# Altium schematic symbol library kmilo17pet-LT_PMIC_LT.SchLib: 2252 symbols (part 123 of 124)
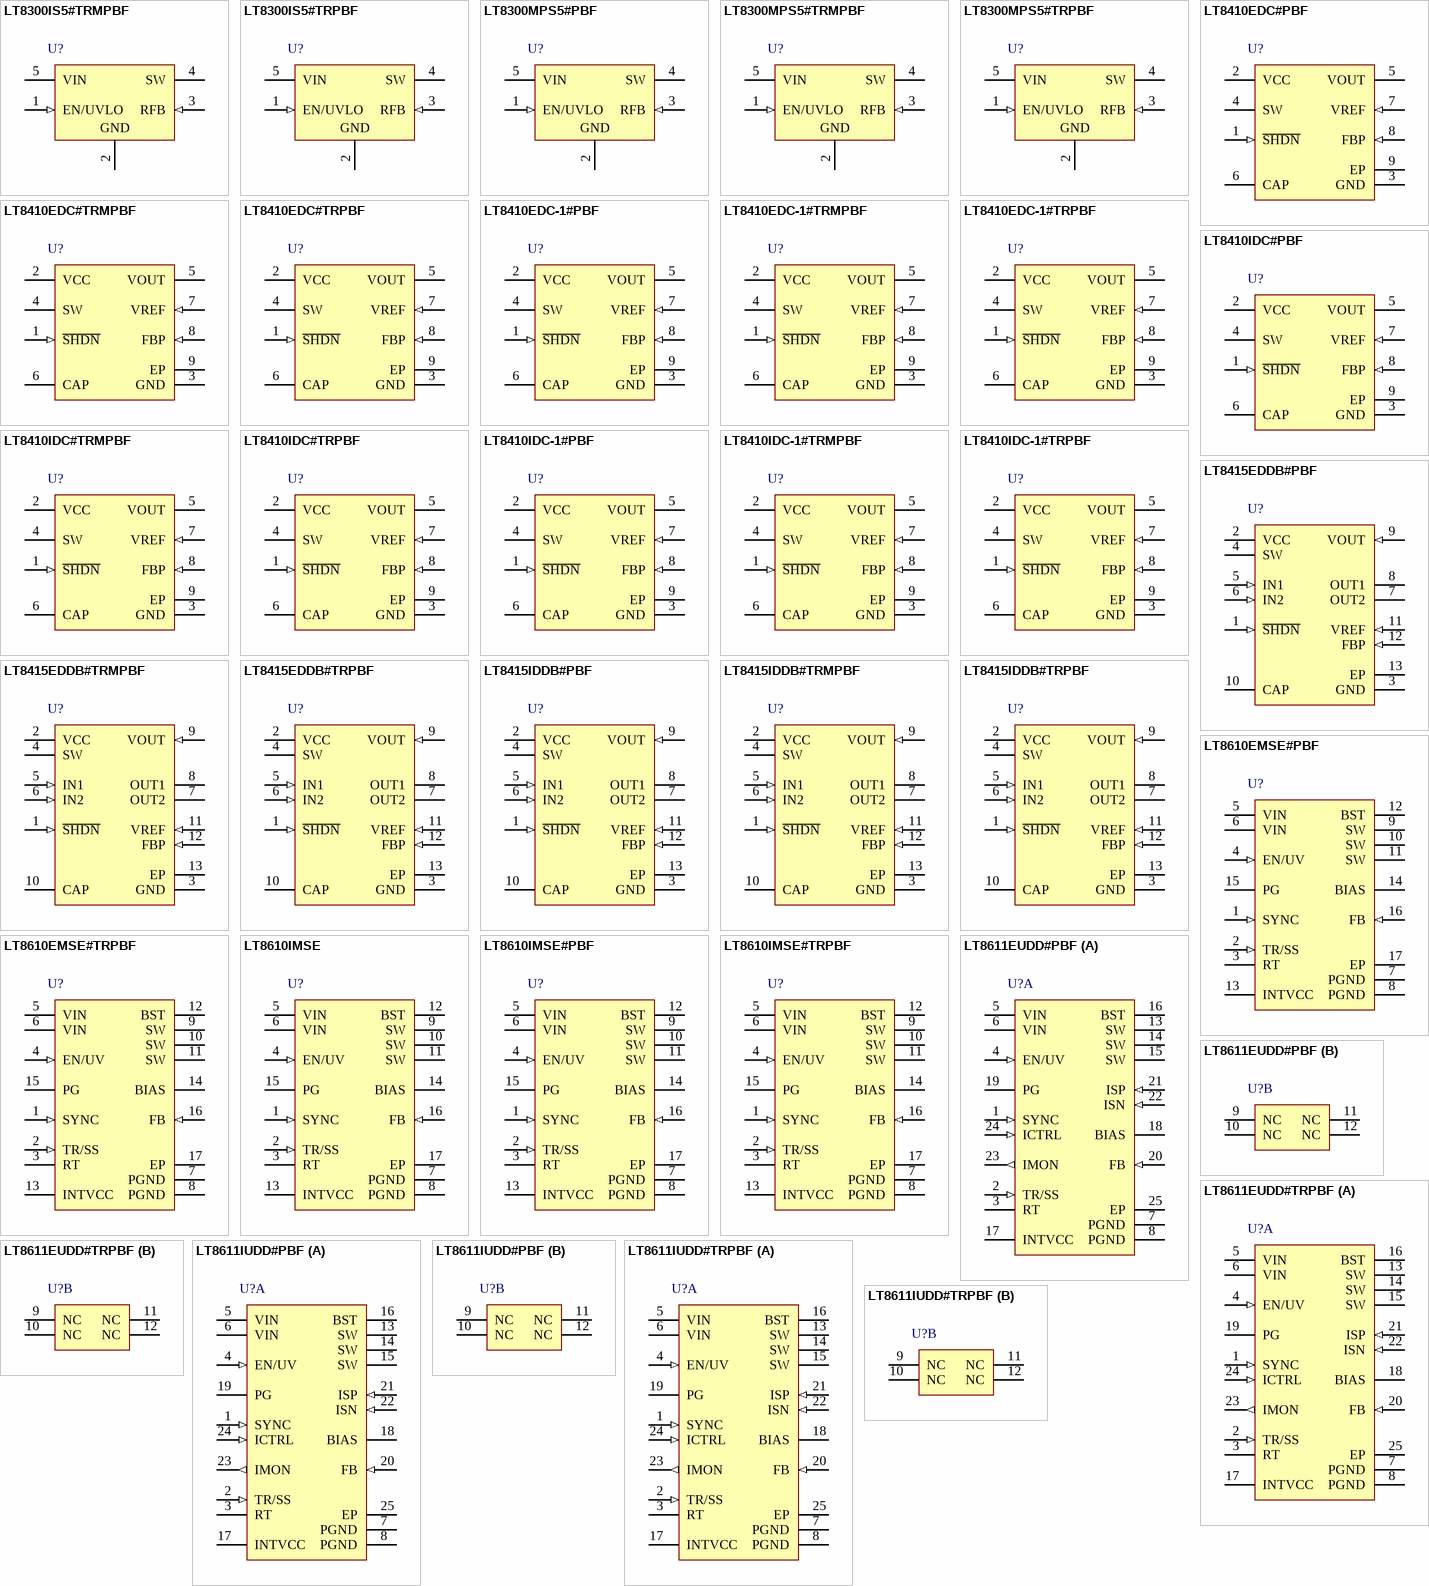
[diagram p193: symbols LT8300IS5#TRMPBF to LT8611IUDD#TRPBF]

## LT8610IMSE#TRPBF
designator U?
2.5 A Synchronous Step-Down Regulator 2.5 uA Quiescent Current, 16-pin SOP (MSE-16-EDP), -40 to 125 degC, Pb-Free, Tape and Reel; Manufacturer: Linear Technology; PartNumber: LT8610IMSE#TRPBF; Number of Outputs: 1; PackageReference: MSE-16; PackageDescription: 16-Pin Plastic MSOP, Exposed Die Pad, Body 4.039 x 3 mm, Pitch 0.5 mm; Supplier 1: Digi-Key; Supplier Part Number 1: LT8610IMSE#TRPBF-ND; RoHS: TRUE
footprint LT-MSE-16-EDP_N (SOP, 16-Leads, Body 4.1x3.1mm, Pitch 0.5mm, Thermal Pad 2.95x1.76mm, IPC Medium Density)
footprint LT-MSE-16-EDP_L (SOP, 16-Leads, Body 4.1x3.1mm, Pitch 0.5mm, Thermal Pad 2.95x1.76mm, IPC High Density)
footprint LT-MSE-16-EDP_M (SOP, 16-Leads, Body 4.1x3.1mm, Pitch 0.5mm, Thermal Pad 2.95x1.76mm, IPC Low Density)
pins: 1 SYNC (in) "External Clock Synchronization Input. Ground this pin for low ripple Burst Mode operation at low output loads. Tie to a clock source for synchronization to an external frequency. Apply a DC voltage of 3V or higher or tie to (See Datasheet)", 2 TR/SS (in) "Output Tracking and Soft-Start Pin. This pin allows user control of output voltage ramp rate during start-up. A TR/SS voltage below 0.97V forces the LT8610 to regulate the FB pin to equal the TR/SS pin voltage. When TR/SS is (See Datasheet)", 3 RT "A resistor is tied between RT and ground to set the switching frequency.", 4 EN/UV (in) "The LT8610 is shut down when this pin is low and active when this pin is high. The hysteretic threshold voltage is 1.00V going up and 0.96V going down. Tie to VIN if the shutdown feature is not used. An external resistor (See Datasheet)", 5 VIN (power) "The VIN pins supply current to the LT8610 internal circuitry and to the internal topside power switch. These pins must be tied together and be locally bypassed. Be sure to place the positive terminal of the input capacitor (See Datasheet)", 6 VIN (power) "The VIN pins supply current to the LT8610 internal circuitry and to the internal topside power switch. These pins must be tied together and be locally bypassed. Be sure to place the positive terminal of the input capacitor (See Datasheet)", 7 PGND (power) "Power Switch Ground. These pins are the return path of the internal bottom-side power switch and must be tied together. Place the negative terminal of the input capacitor as close to the PGND pins as possible.", 8 PGND (power) "Power Switch Ground. These pins are the return path of the internal bottom-side power switch and must be tied together. Place the negative terminal of the input capacitor as close to the PGND pins as possible.", 9 SW (power) "The SW pins are the outputs of the internal power switches. Tie these pins together and connect them to the inductor and boost capacitor. This node should be kept small on the PCB for good performance.", 10 SW (power) "The SW pins are the outputs of the internal power switches. Tie these pins together and connect them to the inductor and boost capacitor. This node should be kept small on the PCB for good performance.", 11 SW (power) "The SW pins are the outputs of the internal power switches. Tie these pins together and connect them to the inductor and boost capacitor. This node should be kept small on the PCB for good performance.", 12 BST "This pin is used to provide a drive voltage, higher than the input voltage, to the topside power switch. Place a 0.1uF boost capacitor as close as possible to the IC.", 13 INTVCC (power) "Internal 3.4V Regulator Bypass Pin. The internal power drivers and control circuits are powered from this voltage. INTVCC maximum output current is 20mA. Do not load the INTVCC pin with external circuitry. INTVCC current (See Datasheet)", 14 BIAS (power) "The internal regulator will draw current from BIAS instead of VIN when BIAS is tied to a voltage higher than 3.1V. For output voltages of 3.3V and above this pin should be tied to VOUT. If this pin is tied to a supply other (See Datasheet)", 15 PG (hiz) "The PG pin is the open-drain output of an internal comparator. PG remains low until the FB pin is within +/-9% of the final regulation voltage, and there are no fault conditions. PG is valid when VIN is above 3.4V, (See Datasheet)", 16 FB (in) "The LT8610 regulates the FB pin to 0.970V. Connect the feedback resistor divider tap to this pin. Also, connect a phase lead capacitor between FB and VOUT. Typically, this capacitor is 4.7pF to 10pF.", 17 EP (power) "Ground. The exposed pad must be connected to the negative terminal of the input capacitor and soldered to the PCB in order to lower the thermal resistance."

## LT8611EUDD#PBF
designator U?
2.5 A Synchronous Step-Down Regulator with Current Sense and 2.5 uA Quiescent Current, 24-pin QFN (UDD-24), -40 to 125 degC, Pb-Free; Manufacturer: Linear Technology; PartNumber: LT8611EUDD#PBF; Number of Outputs: 1; PackageReference: UDD-24; PackageDescription: 24-Pin Plastic QFN, Body 5 x 3 mm, Pitch 0.5 mm; Supplier 1: Digi-Key; Supplier Part Number 1: LT8611EUDD#PBF-ND; RoHS: TRUE
footprint LT-UDD-24_N (QFN, 24-Leads, Body 5.1x3.1mm, Pitch 0.5mm, Thermal Pad 3.65x1.65mm, IPC Medium Density)
footprint LT-UDD-24_L (QFN, 24-Leads, Body 5.1x3.1mm, Pitch 0.5mm, Thermal Pad 3.65x1.65mm, IPC High Density)
footprint LT-UDD-24_M (QFN, 24-Leads, Body 5.1x3.1mm, Pitch 0.5mm, Thermal Pad 3.65x1.65mm, IPC Low Density)
part A pins: 1 SYNC (in) "External Clock Synchronization Input. Ground this pin for low ripple Burst Mode operation at low output loads. Tie to a clock source for synchronization to an external frequency. Apply a DC voltage of 3V or higher or tie to (See Datasheet)", 2 TR/SS (in) "Output Tracking and Soft-Start Pin. This pin allows user control of output voltage ramp rate during start-up. A TR/SS voltage below 0.97V forces the LT8611 to regulate the FB pin to equal the TR/SS pin voltage. When TR/SS is (See Datasheet)", 3 RT "A resistor is tied between RT and ground to set the switching frequency.", 4 EN/UV (in) "The LT8611 is shut down when this pin is low and active when this pin is high. The hysteretic threshold voltage is 1.00V going up and 0.96V going down. Tie to VIN if the shutdown feature is not used. An external resistor (See Datasheet)", 5 VIN (power) "The VIN pins supply current to the LT8611 internal circuitry and to the internal topside power switch. These pins must be tied together and be locally bypassed. Be sure to place the positive terminal of the input capacitor (See Datasheet)", 6 VIN (power) "The VIN pins supply current to the LT8611 internal circuitry and to the internal topside power switch. These pins must be tied together and be locally bypassed. Be sure to place the positive terminal of the input capacitor (See Datasheet)", 7 PGND (power) "Power Switch Ground. These pins are the return path of the internal bottom-side power switch and must be tied together. Place the negative terminal of the input capacitor as close to the PGND pins as possible.", 8 PGND (power) "Power Switch Ground. These pins are the return path of the internal bottom-side power switch and must be tied together. Place the negative terminal of the input capacitor as close to the PGND pins as possible.", 13 SW (power) "The SW pins are the outputs of the internal power switches. Tie these pins together and connect them to the inductor and boost capacitor. This node should be kept small on the PCB for good performance.", 14 SW (power) "The SW pins are the outputs of the internal power switches. Tie these pins together and connect them to the inductor and boost capacitor. This node should be kept small on the PCB for good performance.", 15 SW (power) "The SW pins are the outputs of the internal power switches. Tie these pins together and connect them to the inductor and boost capacitor. This node should be kept small on the PCB for good performance.", 16 BST "This pin is used to provide a drive voltage, higher than the input voltage, to the topside power switch. Place a 0.1uF boost capacitor as close as possible to the IC.", 17 INTVCC (power) "Internal 3.4V Regulator Bypass Pin. The internal power drivers and control circuits are powered from this voltage. INTVCC maximum output current is 20mA. Do not load the INTVCC pin with external circuitry. INTVCC current (See Datasheet)", 18 BIAS (power) "The internal regulator will draw current from BIAS instead of VIN when BIAS is tied to a voltage higher than 3.1V. For output voltages of 3.3V and above this pin should be tied to VOUT. If this pin is tied to a supply other (See Datasheet)", 19 PG (hiz) "The PG pin is the open-drain output of an internal comparator. PG remains low until the FB pin is within +/-9% of the final regulation voltage, and there are no fault conditions. PG is valid when VIN is above 3.4V, (See Datasheet)", 20 FB (in) "The LT8611 regulates the FB pin to 0.970V. Connect the feedback resistor divider tap to this pin. Also, connect a phase lead capacitor between FB and VOUT. Typically, this capacitor is 4.7pF to 10pF.", 21 ISP (in) "Current Sense (+) Pin. This is the noninverting input to the current sense amplifier.", 22 ISN (in) "Current Sense (-) Pin. This is the inverting input to the current sense amplifier.", 23 IMON (out) "Proportional-to-Current Monitor Output. This pin sources a voltage 20 times the voltage between the ISP and ISN pins such that: VIMON = 20 ?(VISP-VISN). IMON can source 200uA and sink 10uA. Float IMON if unused.", 24 ICTRL (in) "Current Adjustment Pin. ICTRL adjusts the maximum ISP-ISN drop before the LT8611 reduces output current. Connect directly to INTVCC or float for full-scale ISP-ISN threshold of 50mV or apply values between GND and 1V to (See Datasheet)", 25 EP (power) "Ground. The exposed pad must be connected to the negative terminal of the input capacitor and soldered to the PCB in order to lower the thermal resistance."
part B pins: 9 NC "No Connect. These pins are not connected to internal circuitry. It is recommended that these be connected to GND so that the exposed pad GND can be run to the top level GND copper to enhance thermal performance.", 10 NC "No Connect. These pins are not connected to internal circuitry. It is recommended that these be connected to GND so that the exposed pad GND can be run to the top level GND copper to enhance thermal performance.", 11 NC "No Connect. These pins are not connected to internal circuitry. It is recommended that these be connected to GND so that the exposed pad GND can be run to the top level GND copper to enhance thermal performance.", 12 NC "No Connect. These pins are not connected to internal circuitry. It is recommended that these be connected to GND so that the exposed pad GND can be run to the top level GND copper to enhance thermal performance."

## LT8611EUDD#TRPBF
designator U?
2.5 A Synchronous Step-Down Regulator with Current Sense and 2.5 uA Quiescent Current, 24-pin QFN (UDD-24), -40 to 125 degC, Pb-Free, Tape and Reel; Manufacturer: Linear Technology; PartNumber: LT8611EUDD#TRPBF; Number of Outputs: 1; PackageReference: UDD-24; PackageDescription: 24-Pin Plastic QFN, Body 5 x 3 mm, Pitch 0.5 mm; Supplier 1: Digi-Key; Supplier Part Number 1: LT8611EUDD#TRPBF-ND; RoHS: TRUE
footprint LT-UDD-24_N (QFN, 24-Leads, Body 5.1x3.1mm, Pitch 0.5mm, Thermal Pad 3.65x1.65mm, IPC Medium Density)
footprint LT-UDD-24_L (QFN, 24-Leads, Body 5.1x3.1mm, Pitch 0.5mm, Thermal Pad 3.65x1.65mm, IPC High Density)
footprint LT-UDD-24_M (QFN, 24-Leads, Body 5.1x3.1mm, Pitch 0.5mm, Thermal Pad 3.65x1.65mm, IPC Low Density)
part A pins: 1 SYNC (in) "External Clock Synchronization Input. Ground this pin for low ripple Burst Mode operation at low output loads. Tie to a clock source for synchronization to an external frequency. Apply a DC voltage of 3V or higher or tie to (See Datasheet)", 2 TR/SS (in) "Output Tracking and Soft-Start Pin. This pin allows user control of output voltage ramp rate during start-up. A TR/SS voltage below 0.97V forces the LT8611 to regulate the FB pin to equal the TR/SS pin voltage. When TR/SS is (See Datasheet)", 3 RT "A resistor is tied between RT and ground to set the switching frequency.", 4 EN/UV (in) "The LT8611 is shut down when this pin is low and active when this pin is high. The hysteretic threshold voltage is 1.00V going up and 0.96V going down. Tie to VIN if the shutdown feature is not used. An external resistor (See Datasheet)", 5 VIN (power) "The VIN pins supply current to the LT8611 internal circuitry and to the internal topside power switch. These pins must be tied together and be locally bypassed. Be sure to place the positive terminal of the input capacitor (See Datasheet)", 6 VIN (power) "The VIN pins supply current to the LT8611 internal circuitry and to the internal topside power switch. These pins must be tied together and be locally bypassed. Be sure to place the positive terminal of the input capacitor (See Datasheet)", 7 PGND (power) "Power Switch Ground. These pins are the return path of the internal bottom-side power switch and must be tied together. Place the negative terminal of the input capacitor as close to the PGND pins as possible.", 8 PGND (power) "Power Switch Ground. These pins are the return path of the internal bottom-side power switch and must be tied together. Place the negative terminal of the input capacitor as close to the PGND pins as possible.", 13 SW (power) "The SW pins are the outputs of the internal power switches. Tie these pins together and connect them to the inductor and boost capacitor. This node should be kept small on the PCB for good performance.", 14 SW (power) "The SW pins are the outputs of the internal power switches. Tie these pins together and connect them to the inductor and boost capacitor. This node should be kept small on the PCB for good performance.", 15 SW (power) "The SW pins are the outputs of the internal power switches. Tie these pins together and connect them to the inductor and boost capacitor. This node should be kept small on the PCB for good performance.", 16 BST "This pin is used to provide a drive voltage, higher than the input voltage, to the topside power switch. Place a 0.1uF boost capacitor as close as possible to the IC.", 17 INTVCC (power) "Internal 3.4V Regulator Bypass Pin. The internal power drivers and control circuits are powered from this voltage. INTVCC maximum output current is 20mA. Do not load the INTVCC pin with external circuitry. INTVCC current (See Datasheet)", 18 BIAS (power) "The internal regulator will draw current from BIAS instead of VIN when BIAS is tied to a voltage higher than 3.1V. For output voltages of 3.3V and above this pin should be tied to VOUT. If this pin is tied to a supply other (See Datasheet)", 19 PG (hiz) "The PG pin is the open-drain output of an internal comparator. PG remains low until the FB pin is within +/-9% of the final regulation voltage, and there are no fault conditions. PG is valid when VIN is above 3.4V, (See Datasheet)", 20 FB (in) "The LT8611 regulates the FB pin to 0.970V. Connect the feedback resistor divider tap to this pin. Also, connect a phase lead capacitor between FB and VOUT. Typically, this capacitor is 4.7pF to 10pF.", 21 ISP (in) "Current Sense (+) Pin. This is the noninverting input to the current sense amplifier.", 22 ISN (in) "Current Sense (-) Pin. This is the inverting input to the current sense amplifier.", 23 IMON (out) "Proportional-to-Current Monitor Output. This pin sources a voltage 20 times the voltage between the ISP and ISN pins such that: VIMON = 20 ?(VISP-VISN). IMON can source 200uA and sink 10uA. Float IMON if unused.", 24 ICTRL (in) "Current Adjustment Pin. ICTRL adjusts the maximum ISP-ISN drop before the LT8611 reduces output current. Connect directly to INTVCC or float for full-scale ISP-ISN threshold of 50mV or apply values between GND and 1V to (See Datasheet)", 25 EP (power) "Ground. The exposed pad must be connected to the negative terminal of the input capacitor and soldered to the PCB in order to lower the thermal resistance."
part B pins: 9 NC "No Connect. These pins are not connected to internal circuitry. It is recommended that these be connected to GND so that the exposed pad GND can be run to the top level GND copper to enhance thermal performance.", 10 NC "No Connect. These pins are not connected to internal circuitry. It is recommended that these be connected to GND so that the exposed pad GND can be run to the top level GND copper to enhance thermal performance.", 11 NC "No Connect. These pins are not connected to internal circuitry. It is recommended that these be connected to GND so that the exposed pad GND can be run to the top level GND copper to enhance thermal performance.", 12 NC "No Connect. These pins are not connected to internal circuitry. It is recommended that these be connected to GND so that the exposed pad GND can be run to the top level GND copper to enhance thermal performance."

## LT8611IUDD#PBF
designator U?
2.5 A Synchronous Step-Down Regulator with Current Sense and 2.5 uA Quiescent Current, 24-pin QFN (UDD-24), -40 to 125 degC, Pb-Free; Manufacturer: Linear Technology; PartNumber: LT8611IUDD#PBF; Number of Outputs: 1; PackageReference: UDD-24; PackageDescription: 24-Pin Plastic QFN, Body 5 x 3 mm, Pitch 0.5 mm; Supplier 1: Digi-Key; Supplier Part Number 1: LT8611IUDD#PBF-ND; RoHS: TRUE
footprint LT-UDD-24_N (QFN, 24-Leads, Body 5.1x3.1mm, Pitch 0.5mm, Thermal Pad 3.65x1.65mm, IPC Medium Density)
footprint LT-UDD-24_L (QFN, 24-Leads, Body 5.1x3.1mm, Pitch 0.5mm, Thermal Pad 3.65x1.65mm, IPC High Density)
footprint LT-UDD-24_M (QFN, 24-Leads, Body 5.1x3.1mm, Pitch 0.5mm, Thermal Pad 3.65x1.65mm, IPC Low Density)
part A pins: 1 SYNC (in) "External Clock Synchronization Input. Ground this pin for low ripple Burst Mode operation at low output loads. Tie to a clock source for synchronization to an external frequency. Apply a DC voltage of 3V or higher or tie to (See Datasheet)", 2 TR/SS (in) "Output Tracking and Soft-Start Pin. This pin allows user control of output voltage ramp rate during start-up. A TR/SS voltage below 0.97V forces the LT8611 to regulate the FB pin to equal the TR/SS pin voltage. When TR/SS is (See Datasheet)", 3 RT "A resistor is tied between RT and ground to set the switching frequency.", 4 EN/UV (in) "The LT8611 is shut down when this pin is low and active when this pin is high. The hysteretic threshold voltage is 1.00V going up and 0.96V going down. Tie to VIN if the shutdown feature is not used. An external resistor (See Datasheet)", 5 VIN (power) "The VIN pins supply current to the LT8611 internal circuitry and to the internal topside power switch. These pins must be tied together and be locally bypassed. Be sure to place the positive terminal of the input capacitor (See Datasheet)", 6 VIN (power) "The VIN pins supply current to the LT8611 internal circuitry and to the internal topside power switch. These pins must be tied together and be locally bypassed. Be sure to place the positive terminal of the input capacitor (See Datasheet)", 7 PGND (power) "Power Switch Ground. These pins are the return path of the internal bottom-side power switch and must be tied together. Place the negative terminal of the input capacitor as close to the PGND pins as possible.", 8 PGND (power) "Power Switch Ground. These pins are the return path of the internal bottom-side power switch and must be tied together. Place the negative terminal of the input capacitor as close to the PGND pins as possible.", 13 SW (power) "The SW pins are the outputs of the internal power switches. Tie these pins together and connect them to the inductor and boost capacitor. This node should be kept small on the PCB for good performance.", 14 SW (power) "The SW pins are the outputs of the internal power switches. Tie these pins together and connect them to the inductor and boost capacitor. This node should be kept small on the PCB for good performance.", 15 SW (power) "The SW pins are the outputs of the internal power switches. Tie these pins together and connect them to the inductor and boost capacitor. This node should be kept small on the PCB for good performance.", 16 BST "This pin is used to provide a drive voltage, higher than the input voltage, to the topside power switch. Place a 0.1uF boost capacitor as close as possible to the IC.", 17 INTVCC (power) "Internal 3.4V Regulator Bypass Pin. The internal power drivers and control circuits are powered from this voltage. INTVCC maximum output current is 20mA. Do not load the INTVCC pin with external circuitry. INTVCC current (See Datasheet)", 18 BIAS (power) "The internal regulator will draw current from BIAS instead of VIN when BIAS is tied to a voltage higher than 3.1V. For output voltages of 3.3V and above this pin should be tied to VOUT. If this pin is tied to a supply other (See Datasheet)", 19 PG (hiz) "The PG pin is the open-drain output of an internal comparator. PG remains low until the FB pin is within +/-9% of the final regulation voltage, and there are no fault conditions. PG is valid when VIN is above 3.4V, (See Datasheet)", 20 FB (in) "The LT8611 regulates the FB pin to 0.970V. Connect the feedback resistor divider tap to this pin. Also, connect a phase lead capacitor between FB and VOUT. Typically, this capacitor is 4.7pF to 10pF.", 21 ISP (in) "Current Sense (+) Pin. This is the noninverting input to the current sense amplifier.", 22 ISN (in) "Current Sense (-) Pin. This is the inverting input to the current sense amplifier.", 23 IMON (out) "Proportional-to-Current Monitor Output. This pin sources a voltage 20 times the voltage between the ISP and ISN pins such that: VIMON = 20 ?(VISP-VISN). IMON can source 200uA and sink 10uA. Float IMON if unused.", 24 ICTRL (in) "Current Adjustment Pin. ICTRL adjusts the maximum ISP-ISN drop before the LT8611 reduces output current. Connect directly to INTVCC or float for full-scale ISP-ISN threshold of 50mV or apply values between GND and 1V to (See Datasheet)", 25 EP (power) "Ground. The exposed pad must be connected to the negative terminal of the input capacitor and soldered to the PCB in order to lower the thermal resistance."
part B pins: 9 NC "No Connect. These pins are not connected to internal circuitry. It is recommended that these be connected to GND so that the exposed pad GND can be run to the top level GND copper to enhance thermal performance.", 10 NC "No Connect. These pins are not connected to internal circuitry. It is recommended that these be connected to GND so that the exposed pad GND can be run to the top level GND copper to enhance thermal performance.", 11 NC "No Connect. These pins are not connected to internal circuitry. It is recommended that these be connected to GND so that the exposed pad GND can be run to the top level GND copper to enhance thermal performance.", 12 NC "No Connect. These pins are not connected to internal circuitry. It is recommended that these be connected to GND so that the exposed pad GND can be run to the top level GND copper to enhance thermal performance."

## LT8611IUDD#TRPBF
designator U?
2.5 A Synchronous Step-Down Regulator with Current Sense and 2.5 uA Quiescent Current, 24-pin QFN (UDD-24), -40 to 125 degC, Pb-Free, Tape and Reel; Manufacturer: Linear Technology; PartNumber: LT8611IUDD#TRPBF; Number of Outputs: 1; PackageReference: UDD-24; PackageDescription: 24-Pin Plastic QFN, Body 5 x 3 mm, Pitch 0.5 mm; Supplier 1: Digi-Key; Supplier Part Number 1: LT8611IUDD#TRPBF-ND; RoHS: TRUE
footprint LT-UDD-24_N (QFN, 24-Leads, Body 5.1x3.1mm, Pitch 0.5mm, Thermal Pad 3.65x1.65mm, IPC Medium Density)
footprint LT-UDD-24_L (QFN, 24-Leads, Body 5.1x3.1mm, Pitch 0.5mm, Thermal Pad 3.65x1.65mm, IPC High Density)
footprint LT-UDD-24_M (QFN, 24-Leads, Body 5.1x3.1mm, Pitch 0.5mm, Thermal Pad 3.65x1.65mm, IPC Low Density)
part A pins: 1 SYNC (in) "External Clock Synchronization Input. Ground this pin for low ripple Burst Mode operation at low output loads. Tie to a clock source for synchronization to an external frequency. Apply a DC voltage of 3V or higher or tie to (See Datasheet)", 2 TR/SS (in) "Output Tracking and Soft-Start Pin. This pin allows user control of output voltage ramp rate during start-up. A TR/SS voltage below 0.97V forces the LT8611 to regulate the FB pin to equal the TR/SS pin voltage. When TR/SS is (See Datasheet)", 3 RT "A resistor is tied between RT and ground to set the switching frequency.", 4 EN/UV (in) "The LT8611 is shut down when this pin is low and active when this pin is high. The hysteretic threshold voltage is 1.00V going up and 0.96V going down. Tie to VIN if the shutdown feature is not used. An external resistor (See Datasheet)", 5 VIN (power) "The VIN pins supply current to the LT8611 internal circuitry and to the internal topside power switch. These pins must be tied together and be locally bypassed. Be sure to place the positive terminal of the input capacitor (See Datasheet)", 6 VIN (power) "The VIN pins supply current to the LT8611 internal circuitry and to the internal topside power switch. These pins must be tied together and be locally bypassed. Be sure to place the positive terminal of the input capacitor (See Datasheet)", 7 PGND (power) "Power Switch Ground. These pins are the return path of the internal bottom-side power switch and must be tied together. Place the negative terminal of the input capacitor as close to the PGND pins as possible.", 8 PGND (power) "Power Switch Ground. These pins are the return path of the internal bottom-side power switch and must be tied together. Place the negative terminal of the input capacitor as close to the PGND pins as possible.", 13 SW (power) "The SW pins are the outputs of the internal power switches. Tie these pins together and connect them to the inductor and boost capacitor. This node should be kept small on the PCB for good performance.", 14 SW (power) "The SW pins are the outputs of the internal power switches. Tie these pins together and connect them to the inductor and boost capacitor. This node should be kept small on the PCB for good performance.", 15 SW (power) "The SW pins are the outputs of the internal power switches. Tie these pins together and connect them to the inductor and boost capacitor. This node should be kept small on the PCB for good performance.", 16 BST "This pin is used to provide a drive voltage, higher than the input voltage, to the topside power switch. Place a 0.1uF boost capacitor as close as possible to the IC.", 17 INTVCC (power) "Internal 3.4V Regulator Bypass Pin. The internal power drivers and control circuits are powered from this voltage. INTVCC maximum output current is 20mA. Do not load the INTVCC pin with external circuitry. INTVCC current (See Datasheet)", 18 BIAS (power) "The internal regulator will draw current from BIAS instead of VIN when BIAS is tied to a voltage higher than 3.1V. For output voltages of 3.3V and above this pin should be tied to VOUT. If this pin is tied to a supply other (See Datasheet)", 19 PG (hiz) "The PG pin is the open-drain output of an internal comparator. PG remains low until the FB pin is within +/-9% of the final regulation voltage, and there are no fault conditions. PG is valid when VIN is above 3.4V, (See Datasheet)", 20 FB (in) "The LT8611 regulates the FB pin to 0.970V. Connect the feedback resistor divider tap to this pin. Also, connect a phase lead capacitor between FB and VOUT. Typically, this capacitor is 4.7pF to 10pF.", 21 ISP (in) "Current Sense (+) Pin. This is the noninverting input to the current sense amplifier.", 22 ISN (in) "Current Sense (-) Pin. This is the inverting input to the current sense amplifier.", 23 IMON (out) "Proportional-to-Current Monitor Output. This pin sources a voltage 20 times the voltage between the ISP and ISN pins such that: VIMON = 20 ?(VISP-VISN). IMON can source 200uA and sink 10uA. Float IMON if unused.", 24 ICTRL (in) "Current Adjustment Pin. ICTRL adjusts the maximum ISP-ISN drop before the LT8611 reduces output current. Connect directly to INTVCC or float for full-scale ISP-ISN threshold of 50mV or apply values between GND and 1V to (See Datasheet)", 25 EP (power) "Ground. The exposed pad must be connected to the negative terminal of the input capacitor and soldered to the PCB in order to lower the thermal resistance."
part B pins: 9 NC "No Connect. These pins are not connected to internal circuitry. It is recommended that these be connected to GND so that the exposed pad GND can be run to the top level GND copper to enhance thermal performance.", 10 NC "No Connect. These pins are not connected to internal circuitry. It is recommended that these be connected to GND so that the exposed pad GND can be run to the top level GND copper to enhance thermal performance.", 11 NC "No Connect. These pins are not connected to internal circuitry. It is recommended that these be connected to GND so that the exposed pad GND can be run to the top level GND copper to enhance thermal performance.", 12 NC "No Connect. These pins are not connected to internal circuitry. It is recommended that these be connected to GND so that the exposed pad GND can be run to the top level GND copper to enhance thermal performance."

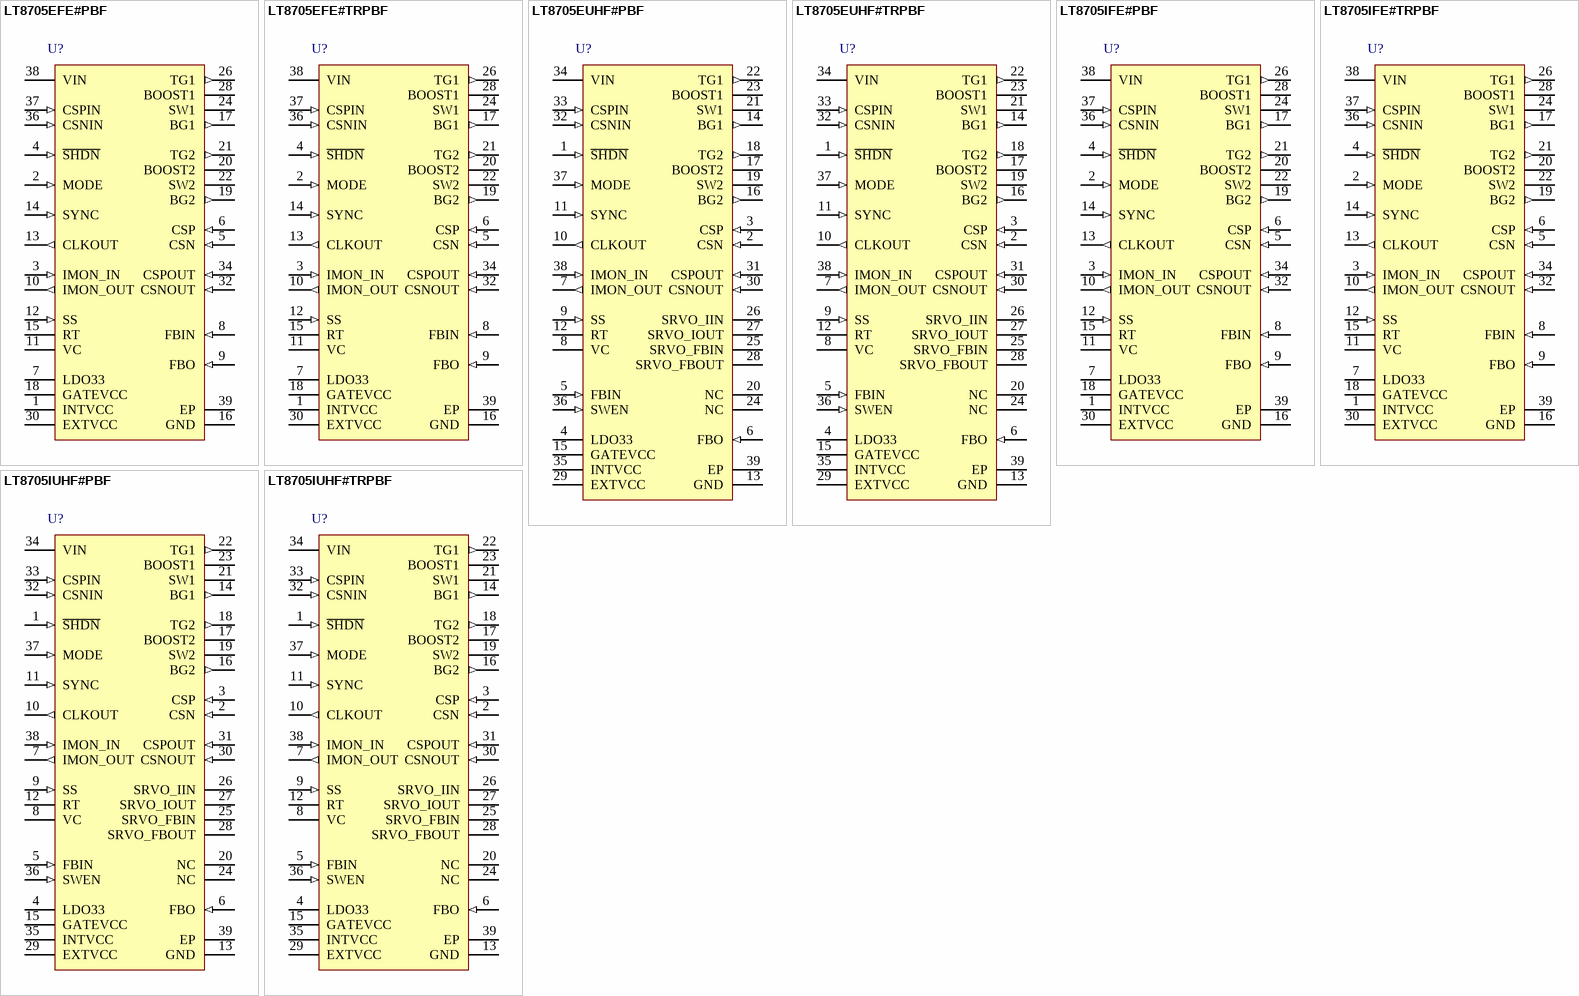
[diagram p71: symbols LT8705EFE#PBF to LT8705IUHF#TRPBF]

## LT8705EFE#PBF
designator U?
Synchronous 4-Switch Buck- Boost DC/DC Controller, 38-pin SOP (FE-38-31-EPV-AB), -40 to 125 degC, Pb-Free; Manufacturer: Linear Technology; PartNumber: LT8705EFE#PBF; Number of Outputs: 1; PackageReference: FE-38; PackageDescription: 31-Pin Plastic TSSOP, Body 9.7 x 4.4 mm, Pitch 0.5 mm; Supplier 1: Digi-Key; Supplier Part Number 1: LT8705EFE#PBF-ND; RoHS: TRUE
footprint LT-FE-38-V-FE38(31)-EPV-AB_N (SOP, 31-Leads, Body 9.8x4.5mm, Pitch 0.5mm, Thermal Pad 4.75x2.74mm, IPC Medium Density)
footprint LT-FE-38-V-FE38(31)-EPV-AB_L (SOP, 31-Leads, Body 9.8x4.5mm, Pitch 0.5mm, Thermal Pad 4.75x2.74mm, IPC High Density)
footprint LT-FE-38-V-FE38(31)-EPV-AB_M (SOP, 31-Leads, Body 9.8x4.5mm, Pitch 0.5mm, Thermal Pad 4.75x2.74mm, IPC Low Density)
pins: 1 INTVCC (power) "Internal 6.35V Regulator Output. Must be connected to the GATEVCC pin. INTVCC is powered from EXTVCC when the EXTVCC voltage is higher than 6.4V, otherwise INTVCC is powered from VIN . Bypass this pin to ground with a (See Datasheet)", 2 MODE (in) "Mode Pin. The voltage applied to this pin sets the operating mode of the controller. When the applied voltage is less than 0.4V, the forced continuous current mode is active. When this pin is allowed to float, Burst Mode (See Datasheet)", 3 IMON_IN (in) "Input Current Monitor Pin. The current out of this pin is proportional to the input current. See the Operation and Applications Information sections.", 4 ~{SHDN} (in) "Shutdown Pin. Tie high to enable device. Ground to shut down and reduce quiescent current to a minimum. Do not float this pin.", 5 CSN (in) "The (-) Input to the Inductor Current Sense and Reverse-Current Detect Amplifier.", 6 CSP (in) "The (+) Input to the Inductor Current Sense and Reverse-Current Detect Amplifier. The VC pin voltage and built-in offsets between CSP and CSN pins, in conjunction with the RSENSE resistor value, set the current trip (See Datasheet)", 7 LDO33 (power) "3.3V Regulator Output. Bypass this pin to ground with a minimum 0.1uF ceramic capacitor.", 8 FBIN (in) "Input Feedback Pin. This pin is connected to the input error amplifier input.", 9 FBO (in) "Output Feedback Pin. This pin connects the error amplifier input to an external resistor divider from the output.", 10 IMON_OUT (out) "Output Current Monitor Pin. The current out of this pin is proportional to the output current. See the Operation and Applications Information sections.", 11 VC "Error Amplifier Output Pin. Tie external compensation network to this pin.", 12 SS (in) "Soft-Start Pin. Place at least 100nF of capacitance here. Upon start-up, this pin will be charged by an internal resistor to 2.5V.", 13 CLKOUT (out) "Clock Output Pin. Use this pin to synchronize one or more compatible switching regulator ICs to the LT8705. CLKOUT toggles at the same frequency as the internal oscillator or as the SYNC pin, but is approximately 180degrees (See Datasheet)", 14 SYNC (in) "To synchronize the switching frequency to an outside clock, simply drive this pin with a clock. The high voltage level of the clock needs to exceed 1.3V, and the low level should be less than 0.5V. Drive this pin to less (See Datasheet)", 15 RT "Timing Resistor Pin. Adjusts the switching frequency. Place a resistor from this pin to ground to set the free-running frequency. Do not float this pin.", 16 GND (power) "Ground. Tie directly to local ground plane.", 17 BG1 (out) "Bottom Gate Drive. Drives the gates of the bottom N-channel MOSFETs between ground and GATEVCC.", 18 GATEVCC (power) "Power Supply for Gate Drivers. Must be connected to the INTVCC pin. Do not power from any other supply. Locally bypass to GND.", 19 BG2 (out) "Bottom Gate Drive. Drives the gates of the bottom N-channel MOSFETs between ground and GATEVCC.", 20 BOOST2 "Boosted Floating Driver Supply. The (+) terminal of the bootstrap capacitor connects here. The BOOST1 pin swings from a diode voltage below GATEVCC up to VIN + GATEVCC. The BOOST2 pin swings from a diode voltage below (See Datasheet)", 21 TG2 (out) "Top Gate Drive. Drives the top N-channel MOSFETs with voltage swings equal to GATEVCC superimposed on the switch node voltages.", 22 SW2 "Switch Nodes. The (-) terminals of the bootstrap capacitors connect here.", 24 SW1 "Switch Nodes. The (-) terminals of the bootstrap capacitors connect here.", 26 TG1 (out) "Top Gate Drive. Drives the top N-channel MOSFETs with voltage swings equal to GATEVCC superimposed on the switch node voltages.", 28 BOOST1 "Boosted Floating Driver Supply. The (+) terminal of the bootstrap capacitor connects here. The BOOST1 pin swings from a diode voltage below GATEVCC up to VIN + GATEVCC. The BOOST2 pin swings from a diode voltage below (See Datasheet)", 30 EXTVCC (power) "External VCC Input. When EXTVCC exceeds 6.4V (typical), INTVCC will be powered from this pin. When EXTVCC is lower than 6.22V (typical), INTVCC will be powered from VIN.", 32 CSNOUT (in) "The (-) Input to the Output Current Monitor Amplifier. Connect this pin to VOUT when not in use. See Applications Information section for proper use of this pin.", 34 CSPOUT (in) "The (+) Input to the Output Current Monitor Amplifier. This pin and the CSNOUT pin measure the voltage across the sense resistor, RSENSE2, to provide the output current signals. Connect this pin to VOUT when not in use. See (See Datasheet)", 36 CSNIN (in) "The (-) Input to the Input Current Monitor Amplifier. This pin and the CSPIN pin measure the voltage across the sense resistor, RSENSE1, to provide the input current signals. Connect this pin to VIN when not in use. See (See Datasheet)", 37 CSPIN (in) "The (+) Input to the Input Current Monitor Amplifier. Connect this pin to VIN when not in use. See Applications Information section for proper use of this pin.", 38 VIN (power) "Main Input Supply Pin. It must be locally bypassed to ground.", 39 EP (power) "Ground. Tie directly to local ground plane."

## LT8705EFE#TRPBF
designator U?
Synchronous 4-Switch Buck- Boost DC/DC Controller, 38-pin SOP (FE-38-31-EPV-AB), -40 to 125 degC, Pb-Free, Tape and Reel; Manufacturer: Linear Technology; PartNumber: LT8705EFE#TRPBF; Number of Outputs: 1; PackageReference: FE-38; PackageDescription: 31-Pin Plastic TSSOP, Body 9.7 x 4.4 mm, Pitch 0.5 mm; Supplier 1: Digi-Key; Supplier Part Number 1: LT8705EFE#TRPBF-ND; RoHS: TRUE
footprint LT-FE-38-V-FE38(31)-EPV-AB_N (SOP, 31-Leads, Body 9.8x4.5mm, Pitch 0.5mm, Thermal Pad 4.75x2.74mm, IPC Medium Density)
footprint LT-FE-38-V-FE38(31)-EPV-AB_L (SOP, 31-Leads, Body 9.8x4.5mm, Pitch 0.5mm, Thermal Pad 4.75x2.74mm, IPC High Density)
footprint LT-FE-38-V-FE38(31)-EPV-AB_M (SOP, 31-Leads, Body 9.8x4.5mm, Pitch 0.5mm, Thermal Pad 4.75x2.74mm, IPC Low Density)
pins: 1 INTVCC (power) "Internal 6.35V Regulator Output. Must be connected to the GATEVCC pin. INTVCC is powered from EXTVCC when the EXTVCC voltage is higher than 6.4V, otherwise INTVCC is powered from VIN . Bypass this pin to ground with a (See Datasheet)", 2 MODE (in) "Mode Pin. The voltage applied to this pin sets the operating mode of the controller. When the applied voltage is less than 0.4V, the forced continuous current mode is active. When this pin is allowed to float, Burst Mode (See Datasheet)", 3 IMON_IN (in) "Input Current Monitor Pin. The current out of this pin is proportional to the input current. See the Operation and Applications Information sections.", 4 ~{SHDN} (in) "Shutdown Pin. Tie high to enable device. Ground to shut down and reduce quiescent current to a minimum. Do not float this pin.", 5 CSN (in) "The (-) Input to the Inductor Current Sense and Reverse-Current Detect Amplifier.", 6 CSP (in) "The (+) Input to the Inductor Current Sense and Reverse-Current Detect Amplifier. The VC pin voltage and built-in offsets between CSP and CSN pins, in conjunction with the RSENSE resistor value, set the current trip (See Datasheet)", 7 LDO33 (power) "3.3V Regulator Output. Bypass this pin to ground with a minimum 0.1uF ceramic capacitor.", 8 FBIN (in) "Input Feedback Pin. This pin is connected to the input error amplifier input.", 9 FBO (in) "Output Feedback Pin. This pin connects the error amplifier input to an external resistor divider from the output.", 10 IMON_OUT (out) "Output Current Monitor Pin. The current out of this pin is proportional to the output current. See the Operation and Applications Information sections.", 11 VC "Error Amplifier Output Pin. Tie external compensation network to this pin.", 12 SS (in) "Soft-Start Pin. Place at least 100nF of capacitance here. Upon start-up, this pin will be charged by an internal resistor to 2.5V.", 13 CLKOUT (out) "Clock Output Pin. Use this pin to synchronize one or more compatible switching regulator ICs to the LT8705. CLKOUT toggles at the same frequency as the internal oscillator or as the SYNC pin, but is approximately 180degrees (See Datasheet)", 14 SYNC (in) "To synchronize the switching frequency to an outside clock, simply drive this pin with a clock. The high voltage level of the clock needs to exceed 1.3V, and the low level should be less than 0.5V. Drive this pin to less (See Datasheet)", 15 RT "Timing Resistor Pin. Adjusts the switching frequency. Place a resistor from this pin to ground to set the free-running frequency. Do not float this pin.", 16 GND (power) "Ground. Tie directly to local ground plane.", 17 BG1 (out) "Bottom Gate Drive. Drives the gates of the bottom N-channel MOSFETs between ground and GATEVCC.", 18 GATEVCC (power) "Power Supply for Gate Drivers. Must be connected to the INTVCC pin. Do not power from any other supply. Locally bypass to GND.", 19 BG2 (out) "Bottom Gate Drive. Drives the gates of the bottom N-channel MOSFETs between ground and GATEVCC.", 20 BOOST2 "Boosted Floating Driver Supply. The (+) terminal of the bootstrap capacitor connects here. The BOOST1 pin swings from a diode voltage below GATEVCC up to VIN + GATEVCC. The BOOST2 pin swings from a diode voltage below (See Datasheet)", 21 TG2 (out) "Top Gate Drive. Drives the top N-channel MOSFETs with voltage swings equal to GATEVCC superimposed on the switch node voltages.", 22 SW2 "Switch Nodes. The (-) terminals of the bootstrap capacitors connect here.", 24 SW1 "Switch Nodes. The (-) terminals of the bootstrap capacitors connect here.", 26 TG1 (out) "Top Gate Drive. Drives the top N-channel MOSFETs with voltage swings equal to GATEVCC superimposed on the switch node voltages.", 28 BOOST1 "Boosted Floating Driver Supply. The (+) terminal of the bootstrap capacitor connects here. The BOOST1 pin swings from a diode voltage below GATEVCC up to VIN + GATEVCC. The BOOST2 pin swings from a diode voltage below (See Datasheet)", 30 EXTVCC (power) "External VCC Input. When EXTVCC exceeds 6.4V (typical), INTVCC will be powered from this pin. When EXTVCC is lower than 6.22V (typical), INTVCC will be powered from VIN.", 32 CSNOUT (in) "The (-) Input to the Output Current Monitor Amplifier. Connect this pin to VOUT when not in use. See Applications Information section for proper use of this pin.", 34 CSPOUT (in) "The (+) Input to the Output Current Monitor Amplifier. This pin and the CSNOUT pin measure the voltage across the sense resistor, RSENSE2, to provide the output current signals. Connect this pin to VOUT when not in use. See (See Datasheet)", 36 CSNIN (in) "The (-) Input to the Input Current Monitor Amplifier. This pin and the CSPIN pin measure the voltage across the sense resistor, RSENSE1, to provide the input current signals. Connect this pin to VIN when not in use. See (See Datasheet)", 37 CSPIN (in) "The (+) Input to the Input Current Monitor Amplifier. Connect this pin to VIN when not in use. See Applications Information section for proper use of this pin.", 38 VIN (power) "Main Input Supply Pin. It must be locally bypassed to ground.", 39 EP (power) "Ground. Tie directly to local ground plane."

## LT8705EUHF#PBF
designator U?
Synchronous 4-Switch Buck- Boost DC/DC Controller, 38-pin QFN (UHF-38), -40 to 125 degC, Pb-Free; Manufacturer: Linear Technology; PartNumber: LT8705EUHF#PBF; Number of Outputs: 1; PackageReference: UHF-38; PackageDescription: 38-Pin Plastic QFN, Body 7 x 5 mm, Pitch 0.5 mm; Supplier 1: Digi-Key; Supplier Part Number 1: LT8705EUHF#PBF-ND; RoHS: TRUE
footprint LT-UHF-38_N (QFN, 38-Leads, Body 7.1x5.1mm, Pitch 0.5mm, Thermal Pad 3.15x5.15mm, IPC Medium Density)
footprint LT-UHF-38_L (QFN, 38-Leads, Body 7.1x5.1mm, Pitch 0.5mm, Thermal Pad 3.15x5.15mm, IPC High Density)
footprint LT-UHF-38_M (QFN, 38-Leads, Body 7.1x5.1mm, Pitch 0.5mm, Thermal Pad 3.15x5.15mm, IPC Low Density)
pins: 1 ~{SHDN} (in) "Shutdown Pin. Tie high to enable device. Ground to shut down and reduce quiescent current to a minimum. Do not float this pin.", 2 CSN (in) "The (-) Input to the Inductor Current Sense and Reverse-Current Detect Amplifier.", 3 CSP (in) "The (+) Input to the Inductor Current Sense and Reverse-Current Detect Amplifier. The VC pin voltage and built-in offsets between CSP and CSN pins, in conjunction with the RSENSE resistor value, set the current trip (See Datasheet)", 4 LDO33 (power) "3.3V Regulator Output. Bypass this pin to ground with a minimum 0.1uF ceramic capacitor.", 5 FBIN (in) "Input Feedback Pin. This pin is connected to the input error amplifier input.", 6 FBO (in) "Output Feedback Pin. This pin connects the error amplifier input to an external resistor divider from the output.", 7 IMON_OUT (out) "Output Current Monitor Pin. The current out of this pin is proportional to the output current. See the Operation and Applications Information sections.", 8 VC "Error Amplifier Output Pin. Tie external compensation network to this pin.", 9 SS (in) "Soft-Start Pin. Place at least 100nF of capacitance here. Upon start-up, this pin will be charged by an internal resistor to 2.5V.", 10 CLKOUT (out) "Clock Output Pin. Use this pin to synchronize one or more compatible switching regulator ICs to the LT8705. CLKOUT toggles at the same frequency as the internal oscillator or as the SYNC pin, but is approximately 180degrees (See Datasheet)", 11 SYNC (in) "To synchronize the switching frequency to an outside clock, simply drive this pin with a clock. The high voltage level of the clock needs to exceed 1.3V, and the low level should be less than 0.5V. Drive this pin to less (See Datasheet)", 12 RT "Timing Resistor Pin. Adjusts the switching frequency. Place a resistor from this pin to ground to set the free-running frequency. Do not float this pin.", 13 GND (power) "Ground. Tie directly to local ground plane.", 14 BG1 (out) "Bottom Gate Drive. Drives the gates of the bottom N-channel MOSFETs between ground and GATEVCC.", 15 GATEVCC (power) "Power Supply for Gate Drivers. Must be connected to the INTVCC pin. Do not power from any other supply. Locally bypass to GND.", 16 BG2 (out) "Bottom Gate Drive. Drives the gates of the bottom N-channel MOSFETs between ground and GATEVCC.", 17 BOOST2 "Boosted Floating Driver Supply. The (+) terminal of the bootstrap capacitor connects here. The BOOST1 pin swings from a diode voltage below GATEVCC up to VIN + GATEVCC. The BOOST2 pin swings from a diode voltage below (See Datasheet)", 18 TG2 (out) "Top Gate Drive. Drives the top N-channel MOSFETs with voltage swings equal to GATEVCC superimposed on the switch node voltages.", 19 SW2 "Switch Nodes. The (-) terminals of the bootstrap capacitors connect here.", 20 NC, 21 SW1 "Switch Nodes. The (-) terminals of the bootstrap capacitors connect here.", 22 TG1 (out) "Top Gate Drive. Drives the top N-channel MOSFETs with voltage swings equal to GATEVCC superimposed on the switch node voltages.", 23 BOOST1 "Boosted Floating Driver Supply. The (+) terminal of the bootstrap capacitor connects here. The BOOST1 pin swings from a diode voltage below GATEVCC up to VIN + GATEVCC. The BOOST2 pin swings from a diode voltage below (See Datasheet)", 24 NC, 25 SRVO_FBIN (oc) "Open-Drain Logic Output. This pin is pulled to ground when the input voltage feedback loop is active.", 26 SRVO_IIN (oc) "Open-Drain Logic Output. The pin is pulled to ground when the input current loop is active.", 27 SRVO_IOUT (oc) "Open-Drain Logic Output. The pin is pulled to ground when the output current feedback loop is active.", 28 SRVO_FBOUT (oc) "Open-Drain Logic Output. This pin is pulled to ground when the output voltage feedback loop is active.", 29 EXTVCC (power) "External VCC Input. When EXTVCC exceeds 6.4V (typical), INTVCC will be powered from this pin. When EXTVCC is lower than 6.22V (typical), INTVCC will be powered from VIN.", 30 CSNOUT (in) "The (-) Input to the Output Current Monitor Amplifier. Connect this pin to VOUT when not in use. See Applications Information section for proper use of this pin.", 31 CSPOUT (in) "The (+) Input to the Output Current Monitor Amplifier. This pin and the CSNOUT pin measure the voltage across the sense resistor, RSENSE2, to provide the output current signals. Connect this pin to VOUT when not in use. See (See Datasheet)", 32 CSNIN (in) "The (-) Input to the Input Current Monitor Amplifier. This pin and the CSPIN pin measure the voltage across the sense resistor, RSENSE1, to provide the input current signals. Connect this pin to VIN when not in use. See (See Datasheet)", 33 CSPIN (in) "The (+) Input to the Input Current Monitor Amplifier. Connect this pin to VIN when not in use. See Applications Information section for proper use of this pin.", 34 VIN (power) "Main Input Supply Pin. It must be locally bypassed to ground.", 35 INTVCC (power) "Internal 6.35V Regulator Output. Must be connected to the GATEVCC pin. INTVCC is powered from EXTVCC when the EXTVCC voltage is higher than 6.4V, otherwise INTVCC is powered from VIN . Bypass this pin to ground with a (See Datasheet)", 36 SWEN (in) "Switch Enable Pin. Tie high to enable switching. Ground to disable switching. Don’t float this pin. This pin is internally tied to INTVCC in the TSSOP package.", 37 MODE (in) "Mode Pin. The voltage applied to this pin sets the operating mode of the controller. When the applied voltage is less than 0.4V, the forced continuous current mode is active. When this pin is allowed to float, Burst Mode (See Datasheet)", 38 IMON_IN (in) "Input Current Monitor Pin. The current out of this pin is proportional to the input current. See the Operation and Applications Information sections.", 39 EP (power) "Ground. Tie directly to local ground plane."